# Altium integrated library Capacitor - Ceramic - Sumsung.IntLib: 1421 symbols (part 14 of 22)
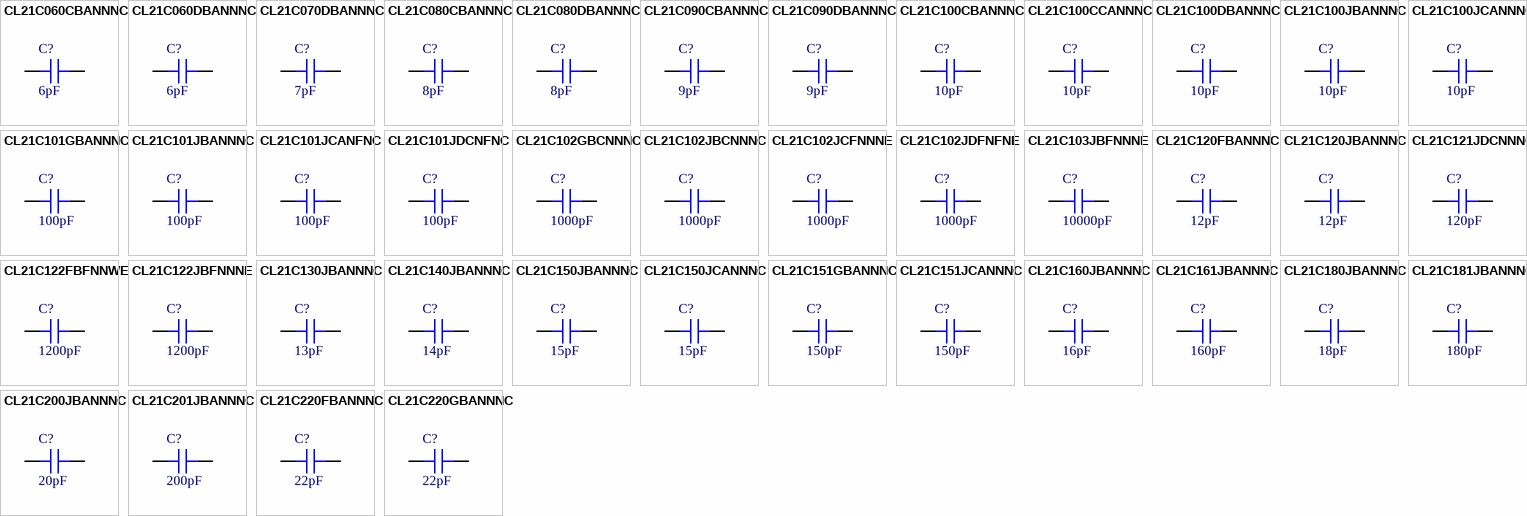
[diagram p48: symbols CL21C060CBANNNC to CL21C220GBANNNC]

## CL21C161JBANNNC
designator C?, comment 160pF
CAP CER 160PF 50V NP0 0805; Part Number: CL21C161JBANNNC; Manufacturer: Samsung Electro-Mechanics America, Inc.; TemperatureRange: -55C ~ 125C; TemperatureCoefficient: C0G, NP0; Tolerance: 5%; Value: 160pF; PartId: 5817; Supplier 1: Digi-Key; Supplier Part Number 1: 1276-2593-2-ND; ComponentLink1Description: Datasheet; ComponentLink1URL: http://www.samsungsem.com/kr/support/product-search/mlcc/CL21C161JBANNNC.jsp; ComponentLink2Description: Digi-Key listing; ComponentLink2URL: http://digikey.com/product-detail/en/CL21C161JBANNNC/1276-2593-2-ND/3888251; Voltage: 50V; Price: 0.0211; Type: -; Device Package: 0805 (2012 Metric)
footprint CAP 0805/2012
pins: 1, 2

## CL21C180JBANNNC
designator C?, comment 18pF
CAP CER 18PF 50V NP0 0805; Part Number: CL21C180JBANNNC; Manufacturer: Samsung Electro-Mechanics America, Inc.; TemperatureRange: -55C ~ 125C; TemperatureCoefficient: C0G, NP0; Tolerance: 5%; Value: 18pF; PartId: 5707; Supplier 1: Digi-Key; Supplier Part Number 1: 1276-1107-2-ND; ComponentLink1Description: Datasheet; ComponentLink1URL: http://www.samsungsem.com/kr/support/product-search/mlcc/CL21C180JBANNNC.jsp; ComponentLink2Description: Digi-Key listing; ComponentLink2URL: http://digikey.com/product-detail/en/CL21C180JBANNNC/1276-1107-2-ND/3886765; Voltage: 50V; Price: 0.0132; Type: -; Device Package: 0805 (2012 Metric)
footprint CAP 0805/2012
pins: 1, 2

## CL21C181JBANNNC
designator C?, comment 180pF
CAP CER 180PF 50V NP0 0805; Part Number: CL21C181JBANNNC; Manufacturer: Samsung Electro-Mechanics America, Inc.; TemperatureRange: -55C ~ 125C; TemperatureCoefficient: C0G, NP0; Tolerance: 5%; Value: 180pF; PartId: 5785; Supplier 1: Digi-Key; Supplier Part Number 1: 1276-1129-2-ND; ComponentLink1Description: Datasheet; ComponentLink1URL: http://www.samsungsem.com/kr/support/product-search/mlcc/CL21C181JBANNNC.jsp; ComponentLink2Description: Digi-Key listing; ComponentLink2URL: http://digikey.com/product-detail/en/CL21C181JBANNNC/1276-1129-2-ND/3886787; Voltage: 50V; Price: 0.0173; Type: -; Device Package: 0805 (2012 Metric)
footprint CAP 0805/2012
pins: 1, 2

## CL21C200JBANNNC
designator C?, comment 20pF
CAP CER 20PF 50V NP0 0805; Part Number: CL21C200JBANNNC; Manufacturer: Samsung Electro-Mechanics America, Inc.; TemperatureRange: -55C ~ 125C; TemperatureCoefficient: C0G, NP0; Tolerance: 5%; Value: 20pF; PartId: 5751; Supplier 1: Digi-Key; Supplier Part Number 1: 1276-1829-2-ND; ComponentLink1Description: Datasheet; ComponentLink1URL: http://www.samsungsem.com/kr/support/product-search/mlcc/CL21C200JBANNNC.jsp; ComponentLink2Description: Digi-Key listing; ComponentLink2URL: http://digikey.com/product-detail/en/CL21C200JBANNNC/1276-1829-2-ND/3887487; Voltage: 50V; Price: 0.0163; Type: -; Device Package: 0805 (2012 Metric)
footprint CAP 0805/2012
pins: 1, 2

## CL21C201JBANNNC
designator C?, comment 200pF
CAP CER 200PF 50V NP0 0805; Part Number: CL21C201JBANNNC; Manufacturer: Samsung Electro-Mechanics America, Inc.; TemperatureRange: -55C ~ 125C; TemperatureCoefficient: C0G, NP0; Tolerance: 5%; Value: 200pF; PartId: 5798; Supplier 1: Digi-Key; Supplier Part Number 1: 1276-2601-2-ND; ComponentLink1Description: Datasheet; ComponentLink1URL: http://www.samsungsem.com/kr/support/product-search/mlcc/CL21C201JBANNNC.jsp; ComponentLink2Description: Digi-Key listing; ComponentLink2URL: http://digikey.com/product-detail/en/CL21C201JBANNNC/1276-2601-2-ND/3888259; Voltage: 50V; Price: 0.0183; Type: -; Device Package: 0805 (2012 Metric)
footprint CAP 0805/2012
pins: 1, 2

## CL21C220FBANNNC
designator C?, comment 22pF
CAP CER 22PF 50V NP0 0805; Part Number: CL21C220FBANNNC; Manufacturer: Samsung Electro-Mechanics America, Inc.; TemperatureRange: -55C ~ 125C; TemperatureCoefficient: C0G, NP0; Tolerance: 1%; Value: 22pF; PartId: 6034; Supplier 1: Digi-Key; Supplier Part Number 1: 1276-2602-2-ND; ComponentLink1Description: Datasheet; ComponentLink1URL: http://media.digikey.com/pdf/Data%20Sheets/Samsung%20PDFs/CL21C220FBANNNC_Spec.pdf; ComponentLink2Description: Digi-Key listing; ComponentLink2URL: http://digikey.com/product-detail/en/CL21C220FBANNNC/1276-2602-2-ND/3888260; Voltage: 50V; Price: 0.0774; Type: -; Device Package: 0805 (2012 Metric)
footprint CAP 0805/2012
pins: 1, 2

## CL21C220GBANNNC
designator C?, comment 22pF
CAP CER 22PF 50V NP0 0805; Part Number: CL21C220GBANNNC; Manufacturer: Samsung Electro-Mechanics America, Inc.; TemperatureRange: -55C ~ 125C; TemperatureCoefficient: C0G, NP0; Tolerance: 2%; Value: 22pF; PartId: 5899; Supplier 1: Digi-Key; Supplier Part Number 1: 1276-2604-2-ND; ComponentLink1Description: Datasheet; ComponentLink1URL: http://www.samsungsem.com/kr/support/product-search/mlcc/CL21C220GBANNNC.jsp; ComponentLink2Description: Digi-Key listing; ComponentLink2URL: http://digikey.com/product-detail/en/CL21C220GBANNNC/1276-2604-2-ND/3888262; Voltage: 50V; Price: 0.0343; Type: -; Device Package: 0805 (2012 Metric)
footprint CAP 0805/2012
pins: 1, 2

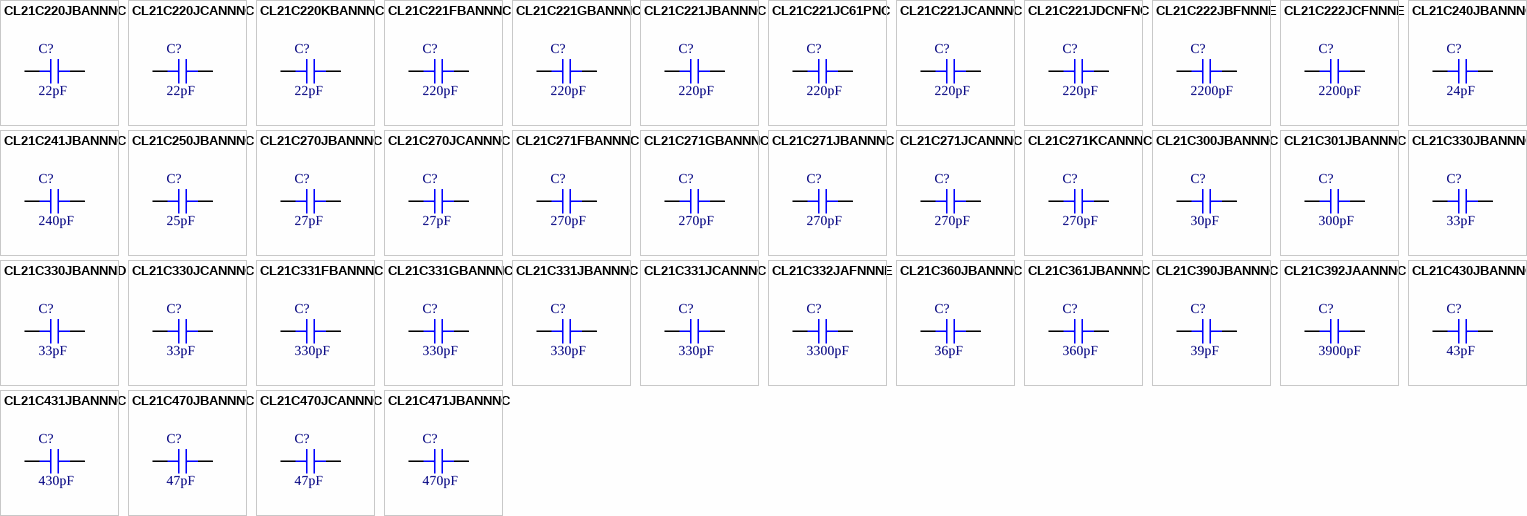
[diagram p22: symbols CL21C220JBANNNC to CL21C471JBANNNC]

## CL21C220JBANNNC
designator C?, comment 22pF
CAP CER 22PF 50V NP0 0805; Part Number: CL21C220JBANNNC; Manufacturer: Samsung Electro-Mechanics America, Inc.; TemperatureRange: -55C ~ 125C; TemperatureCoefficient: C0G, NP0; Tolerance: 5%; Value: 22pF; PartId: 13917; Supplier 1: Digi-Key; Supplier Part Number 1: 1276-1047-2-ND; ComponentLink1Description: Datasheet; ComponentLink1URL: http://www.samsungsem.com/kr/front/downloadcms.do?path=/kr/support/product-search/mlcc/__icsFiles/afieldfile/2014/11/05&fileName=C_CL21C220JBANNNC.pdf; ComponentLink2Description: Digi-Key Listing; ComponentLink2URL: https://www.digikey.com/product-detail/en/samsung-electro-mechanics-america-inc/CL21C220JBANNNC/1276-1047-2-ND/3886705; Voltage: 50V; Price: 0.0092; Device Package: 0805 (2012 Metric)
footprint CAP 0805/2012
pins: 1, 2

## CL21C220JCANNNC
designator C?, comment 22pF
CAP CER 22PF 100V NP0 0805; Part Number: CL21C220JCANNNC; Manufacturer: Samsung Electro-Mechanics America, Inc.; TemperatureRange: -55C ~ 125C; TemperatureCoefficient: C0G, NP0; Tolerance: 5%; Value: 22pF; PartId: 5778; Supplier 1: Digi-Key; Supplier Part Number 1: 1276-2607-2-ND; ComponentLink1Description: Datasheet; ComponentLink1URL: http://www.samsungsem.com/kr/support/product-search/mlcc/CL21C220JCANNNC.jsp; ComponentLink2Description: Digi-Key listing; ComponentLink2URL: http://digikey.com/product-detail/en/CL21C220JCANNNC/1276-2607-2-ND/3888265; Voltage: 100V; Price: 0.0165; Type: -; Device Package: 0805 (2012 Metric)
footprint CAP 0805/2012
pins: 1, 2

## CL21C220KBANNNC
designator C?, comment 22pF
CAP CER 22PF 50V NP0 0805; Part Number: CL21C220KBANNNC; Manufacturer: Samsung Electro-Mechanics America, Inc.; TemperatureRange: -55C ~ 125C; TemperatureCoefficient: C0G, NP0; Tolerance: 10%; Value: 22pF; PartId: 5711; Supplier 1: Digi-Key; Supplier Part Number 1: 1276-2609-2-ND; ComponentLink1Description: Datasheet; ComponentLink1URL: http://www.samsungsem.com/kr/support/product-search/mlcc/CL21C220KBANNNC.jsp; ComponentLink2Description: Digi-Key listing; ComponentLink2URL: http://digikey.com/product-detail/en/CL21C220KBANNNC/1276-2609-2-ND/3888267; Voltage: 50V; Price: 0.0132; Type: -; Device Package: 0805 (2012 Metric)
footprint CAP 0805/2012
pins: 1, 2

## CL21C221FBANNNC
designator C?, comment 220pF
CAP CER 220PF 50V NP0 0805; Part Number: CL21C221FBANNNC; Manufacturer: Samsung Electro-Mechanics America, Inc.; TemperatureRange: -55C ~ 125C; TemperatureCoefficient: C0G, NP0; Tolerance: 1%; Value: 220pF; PartId: 6066; Supplier 1: Digi-Key; Supplier Part Number 1: 1276-2610-2-ND; ComponentLink1Description: Datasheet; ComponentLink1URL: http://media.digikey.com/pdf/Data%20Sheets/Samsung%20PDFs/CL21C221FBANNNC_Spec.pdf; ComponentLink2Description: Digi-Key listing; ComponentLink2URL: http://digikey.com/product-detail/en/CL21C221FBANNNC/1276-2610-2-ND/3888268; Voltage: 50V; Price: 0.098; Type: -; Device Package: 0805 (2012 Metric)
footprint CAP 0805/2012
pins: 1, 2

## CL21C221GBANNNC
designator C?, comment 220pF
CAP CER 220PF 50V NP0 0805; Part Number: CL21C221GBANNNC; Manufacturer: Samsung Electro-Mechanics America, Inc.; TemperatureRange: -55C ~ 125C; TemperatureCoefficient: C0G, NP0; Tolerance: 2%; Value: 220pF; PartId: 6020; Supplier 1: Digi-Key; Supplier Part Number 1: 1276-2611-2-ND; ComponentLink1Description: Datasheet; ComponentLink1URL: http://www.samsungsem.com/kr/support/product-search/mlcc/CL21C221GBANNNC.jsp; ComponentLink2Description: Digi-Key listing; ComponentLink2URL: http://digikey.com/product-detail/en/CL21C221GBANNNC/1276-2611-2-ND/3888269; Voltage: 50V; Price: 0.0721; Type: -; Device Package: 0805 (2012 Metric)
footprint CAP 0805/2012
pins: 1, 2

## CL21C221JBANNNC
designator C?, comment 220pF
CAP CER 220PF 50V NP0 0805; Part Number: CL21C221JBANNNC; Manufacturer: Samsung Electro-Mechanics America, Inc.; TemperatureRange: -55C ~ 125C; TemperatureCoefficient: C0G, NP0; Tolerance: 5%; Value: 220pF; PartId: 5776; Supplier 1: Digi-Key; Supplier Part Number 1: 1276-1164-2-ND; ComponentLink1Description: Datasheet; ComponentLink1URL: http://www.samsungsem.com/kr/support/product-search/mlcc/CL21C221JBANNNC.jsp; ComponentLink2Description: Digi-Key listing; ComponentLink2URL: http://digikey.com/product-detail/en/CL21C221JBANNNC/1276-1164-2-ND/3886822; Voltage: 50V; Price: 0.0165; Type: -; Device Package: 0805 (2012 Metric)
footprint CAP 0805/2012
pins: 1, 2

## CL21C221JC61PNC
designator C?, comment 220pF
CAP CER 220PF 100V NP0 0805; Part Number: CL21C221JC61PNC; Manufacturer: Samsung Electro-Mechanics America, Inc.; TemperatureRange: -55C ~ 125C; TemperatureCoefficient: C0G, NP0; Tolerance: 5%; Value: 220pF; PartId: 14348; Supplier 1: Digi-Key; Supplier Part Number 1: 1276-2614-2-ND; ComponentLink1Description: Datasheet; ComponentLink1URL: //media.digikey.com/pdf/Data%20Sheets/Samsung%20PDFs/CL21C221JC61PNC_Spec.pdf; ComponentLink2Description: Digi-Key Listing; ComponentLink2URL: https://www.digikey.com/product-detail/en/samsung-electro-mechanics-america-inc/CL21C221JC61PNC/1276-2614-2-ND/3888272; Voltage: 100V; Price: 0.0309; Device Package: 0805 (2012 Metric)
footprint CAP 0805/2012
pins: 1, 2

## CL21C221JCANNNC
designator C?, comment 220pF
CAP CER 220PF 100V NP0 0805; Part Number: CL21C221JCANNNC; Manufacturer: Samsung Electro-Mechanics America, Inc.; TemperatureRange: -55C ~ 125C; TemperatureCoefficient: C0G, NP0; Tolerance: 5%; Value: 220pF; PartId: 5895; Supplier 1: Digi-Key; Supplier Part Number 1: 1276-2615-2-ND; ComponentLink1Description: Datasheet; ComponentLink1URL: http://www.samsungsem.com/kr/support/product-search/mlcc/CL21C221JCANNNC.jsp; ComponentLink2Description: Digi-Key listing; ComponentLink2URL: http://digikey.com/product-detail/en/CL21C221JCANNNC/1276-2615-2-ND/3888273; Voltage: 100V; Price: 0.034; Type: -; Device Package: 0805 (2012 Metric)
footprint CAP 0805/2012
pins: 1, 2

## CL21C221JDCNFNC
designator C?, comment 220pF
CAP CER 220PF 200V NP0 0805; Part Number: CL21C221JDCNFNC; Manufacturer: Samsung Electro-Mechanics America, Inc.; TemperatureRange: -55C ~ 125C; TemperatureCoefficient: C0G, NP0; Tolerance: 5%; Value: 220pF; PartId: 5915; Supplier 1: Digi-Key; Supplier Part Number 1: 1276-2616-2-ND; ComponentLink1Description: Datasheet; ComponentLink1URL: http://www.samsungsem.com/kr/support/product-search/mlcc/CL21C221JDCNFNC.jsp; ComponentLink2Description: Digi-Key listing; ComponentLink2URL: http://digikey.com/product-detail/en/CL21C221JDCNFNC/1276-2616-2-ND/3888274; Voltage: 200V; Price: 0.0384; Type: -; Device Package: 0805 (2012 Metric)
footprint CAP 0805/2012
pins: 1, 2

## CL21C222JBFNNNE
designator C?, comment 2200pF
CAP CER 2200PF 50V NP0 0805; Part Number: CL21C222JBFNNNE; Manufacturer: Samsung Electro-Mechanics America, Inc.; TemperatureRange: -55C ~ 125C; TemperatureCoefficient: C0G, NP0; Tolerance: 5%; Value: 2200pF; PartId: 5922; Supplier 1: Digi-Key; Supplier Part Number 1: 1276-2993-2-ND; ComponentLink1Description: Datasheet; ComponentLink1URL: http://www.samsungsem.com/kr/support/product-search/mlcc/CL21C222JBFNNNE.jsp; ComponentLink2Description: Digi-Key listing; ComponentLink2URL: http://digikey.com/product-detail/en/CL21C222JBFNNNE/1276-2993-2-ND/3888651; Voltage: 50V; Price: 0.0405; Type: -; Device Package: 0805 (2012 Metric)
footprint CAP 0805/2012
pins: 1, 2

## CL21C222JCFNNNE
designator C?, comment 2200pF
CAP CER 2200PF 100V NP0 0805; Part Number: CL21C222JCFNNNE; Manufacturer: Samsung Electro-Mechanics America, Inc.; TemperatureRange: -55C ~ 125C; TemperatureCoefficient: C0G, NP0; Tolerance: 5%; Value: 2200pF; PartId: 5953; Supplier 1: Digi-Key; Supplier Part Number 1: 1276-2995-2-ND; ComponentLink1Description: Datasheet; ComponentLink1URL: http://www.samsungsem.com/kr/support/product-search/mlcc/CL21C222JCFNNNE.jsp; ComponentLink2Description: Digi-Key listing; ComponentLink2URL: http://digikey.com/product-detail/en/CL21C222JCFNNNE/1276-2995-2-ND/3888653; Voltage: 100V; Price: 0.0505; Type: -; Device Package: 0805 (2012 Metric)
footprint CAP 0805/2012
pins: 1, 2

## CL21C240JBANNNC
designator C?, comment 24pF
CAP CER 24PF 50V NP0 0805; Part Number: CL21C240JBANNNC; Manufacturer: Samsung Electro-Mechanics America, Inc.; TemperatureRange: -55C ~ 125C; TemperatureCoefficient: C0G, NP0; Tolerance: 5%; Value: 24pF; PartId: 5669; Supplier 1: Digi-Key; Supplier Part Number 1: 1276-2619-2-ND; ComponentLink1Description: Datasheet; ComponentLink1URL: http://www.samsungsem.com/kr/support/product-search/mlcc/CL21C240JBANNNC.jsp; ComponentLink2Description: Digi-Key listing; ComponentLink2URL: http://digikey.com/product-detail/en/CL21C240JBANNNC/1276-2619-2-ND/3888277; Voltage: 50V; Price: 0.0054; Type: -; Device Package: 0805 (2012 Metric)
footprint CAP 0805/2012
pins: 1, 2

## CL21C241JBANNNC
designator C?, comment 240pF
CAP CER 240PF 50V NP0 0805; Part Number: CL21C241JBANNNC; Manufacturer: Samsung Electro-Mechanics America, Inc.; TemperatureRange: -55C ~ 125C; TemperatureCoefficient: C0G, NP0; Tolerance: 5%; Value: 240pF; PartId: 5842; Supplier 1: Digi-Key; Supplier Part Number 1: 1276-2620-2-ND; ComponentLink1Description: Datasheet; ComponentLink1URL: http://www.samsungsem.com/kr/support/product-search/mlcc/CL21C241JBANNNC.jsp; ComponentLink2Description: Digi-Key listing; ComponentLink2URL: http://digikey.com/product-detail/en/CL21C241JBANNNC/1276-2620-2-ND/3888278; Voltage: 50V; Price: 0.0239; Type: -; Device Package: 0805 (2012 Metric)
footprint CAP 0805/2012
pins: 1, 2

## CL21C250JBANNNC
designator C?, comment 25pF
CAP CER 25PF 50V NP0 0805; Part Number: CL21C250JBANNNC; Manufacturer: Samsung Electro-Mechanics America, Inc.; TemperatureRange: -55C ~ 125C; TemperatureCoefficient: C0G, NP0; Tolerance: 5%; Value: 25pF; PartId: 5673; Supplier 1: Digi-Key; Supplier Part Number 1: 1276-2621-2-ND; ComponentLink1Description: Datasheet; ComponentLink1URL: http://www.samsungsem.com/kr/support/product-search/mlcc/CL21C250JBANNNC.jsp; ComponentLink2Description: Digi-Key listing; ComponentLink2URL: http://digikey.com/product-detail/en/CL21C250JBANNNC/1276-2621-2-ND/3888279; Voltage: 50V; Price: 0.0054; Type: -; Device Package: 0805 (2012 Metric)
footprint CAP 0805/2012
pins: 1, 2

## CL21C270JBANNNC
designator C?, comment 27pF
CAP CER 27PF 50V NP0 0805; Part Number: CL21C270JBANNNC; Manufacturer: Samsung Electro-Mechanics America, Inc.; TemperatureRange: -55C ~ 125C; TemperatureCoefficient: C0G, NP0; Tolerance: 5%; Value: 27pF; PartId: 5748; Supplier 1: Digi-Key; Supplier Part Number 1: 1276-1285-2-ND; ComponentLink1Description: Datasheet; ComponentLink1URL: http://www.samsungsem.com/kr/support/product-search/mlcc/CL21C270JBANNNC.jsp; ComponentLink2Description: Digi-Key listing; ComponentLink2URL: http://digikey.com/product-detail/en/CL21C270JBANNNC/1276-1285-2-ND/3886943; Voltage: 50V; Price: 0.0163; Type: -; Device Package: 0805 (2012 Metric)
footprint CAP 0805/2012
pins: 1, 2

## CL21C270JCANNNC
designator C?, comment 27pF
CAP CER 27PF 100V NP0 0805; Part Number: CL21C270JCANNNC; Manufacturer: Samsung Electro-Mechanics America, Inc.; TemperatureRange: -55C ~ 125C; TemperatureCoefficient: C0G, NP0; Tolerance: 5%; Value: 27pF; PartId: 5819; Supplier 1: Digi-Key; Supplier Part Number 1: 1276-2622-2-ND; ComponentLink1Description: Datasheet; ComponentLink1URL: http://www.samsungsem.com/kr/support/product-search/mlcc/CL21C270JCANNNC.jsp; ComponentLink2Description: Digi-Key listing; ComponentLink2URL: http://digikey.com/product-detail/en/CL21C270JCANNNC/1276-2622-2-ND/3888280; Voltage: 100V; Price: 0.0212; Type: -; Device Package: 0805 (2012 Metric)
footprint CAP 0805/2012
pins: 1, 2

## CL21C271FBANNNC
designator C?, comment 270pF
CAP CER 270PF 50V NP0 0805; Part Number: CL21C271FBANNNC; Manufacturer: Samsung Electro-Mechanics America, Inc.; TemperatureRange: -55C ~ 125C; TemperatureCoefficient: C0G, NP0; Tolerance: 1%; Value: 270pF; PartId: 6012; Supplier 1: Digi-Key; Supplier Part Number 1: 1276-2623-2-ND; ComponentLink1Description: Datasheet; ComponentLink1URL: http://media.digikey.com/pdf/Data%20Sheets/Samsung%20PDFs/CL21C271FBANNNC_Spec.pdf; ComponentLink2Description: Digi-Key listing; ComponentLink2URL: http://digikey.com/product-detail/en/CL21C271FBANNNC/1276-2623-2-ND/3888281; Voltage: 50V; Price: 0.0705; Type: -; Device Package: 0805 (2012 Metric)
footprint CAP 0805/2012
pins: 1, 2

## CL21C271GBANNNC
designator C?, comment 270pF
CAP CER 270PF 50V NP0 0805; Part Number: CL21C271GBANNNC; Manufacturer: Samsung Electro-Mechanics America, Inc.; TemperatureRange: -55C ~ 125C; TemperatureCoefficient: C0G, NP0; Tolerance: 2%; Value: 270pF; PartId: 5943; Supplier 1: Digi-Key; Supplier Part Number 1: 1276-2624-2-ND; ComponentLink1Description: Datasheet; ComponentLink1URL: http://www.samsungsem.com/kr/support/product-search/mlcc/CL21C271GBANNNC.jsp; ComponentLink2Description: Digi-Key listing; ComponentLink2URL: http://digikey.com/product-detail/en/CL21C271GBANNNC/1276-2624-2-ND/3888282; Voltage: 50V; Price: 0.0457; Type: -; Device Package: 0805 (2012 Metric)
footprint CAP 0805/2012
pins: 1, 2

## CL21C271JBANNNC
designator C?, comment 270pF
CAP CER 270PF 50V NP0 0805; Part Number: CL21C271JBANNNC; Manufacturer: Samsung Electro-Mechanics America, Inc.; TemperatureRange: -55C ~ 125C; TemperatureCoefficient: C0G, NP0; Tolerance: 5%; Value: 270pF; PartId: 14248; Supplier 1: Digi-Key; Supplier Part Number 1: 1276-1262-2-ND; ComponentLink1Description: Datasheet; ComponentLink1URL: http://www.samsungsem.com/kr/support/product-search/mlcc/CL21C271JBANNNC.jsp; ComponentLink2Description: Digi-Key Listing; ComponentLink2URL: https://www.digikey.com/product-detail/en/samsung-electro-mechanics-america-inc/CL21C271JBANNNC/1276-1262-2-ND/3886920; Voltage: 50V; Price: 0.0156; Device Package: 0805 (2012 Metric)
footprint CAP 0805/2012
pins: 1, 2

## CL21C271JCANNNC
designator C?, comment 270pF
CAP CER 270PF 100V NP0 0805; Part Number: CL21C271JCANNNC; Manufacturer: Samsung Electro-Mechanics America, Inc.; TemperatureRange: -55C ~ 125C; TemperatureCoefficient: C0G, NP0; Tolerance: 5%; Value: 270pF; PartId: 5872; Supplier 1: Digi-Key; Supplier Part Number 1: 1276-2627-2-ND; ComponentLink1Description: Datasheet; ComponentLink1URL: http://www.samsungsem.com/kr/support/product-search/mlcc/CL21C271JCANNNC.jsp; ComponentLink2Description: Digi-Key listing; ComponentLink2URL: http://digikey.com/product-detail/en/CL21C271JCANNNC/1276-2627-2-ND/3888285; Voltage: 100V; Price: 0.0297; Type: -; Device Package: 0805 (2012 Metric)
footprint CAP 0805/2012
pins: 1, 2

## CL21C271KCANNNC
designator C?, comment 270pF
CAP CER 270PF 100V NP0 0805; Part Number: CL21C271KCANNNC; Manufacturer: Samsung Electro-Mechanics America, Inc.; TemperatureRange: -55C ~ 125C; TemperatureCoefficient: C0G, NP0; Tolerance: 10%; Value: 270pF; PartId: 5926; Supplier 1: Digi-Key; Supplier Part Number 1: 1276-2628-2-ND; ComponentLink1Description: Datasheet; ComponentLink1URL: http://www.samsungsem.com/kr/support/product-search/mlcc/CL21C271KCANNNC.jsp; ComponentLink2Description: Digi-Key listing; ComponentLink2URL: http://digikey.com/product-detail/en/CL21C271KCANNNC/1276-2628-2-ND/3888286; Voltage: 100V; Price: 0.0413; Type: -; Device Package: 0805 (2012 Metric)
footprint CAP 0805/2012
pins: 1, 2

## CL21C300JBANNNC
designator C?, comment 30pF
CAP CER 30PF 50V NP0 0805; Part Number: CL21C300JBANNNC; Manufacturer: Samsung Electro-Mechanics America, Inc.; TemperatureRange: -55C ~ 125C; TemperatureCoefficient: C0G, NP0; Tolerance: 5%; Value: 30pF; PartId: 5752; Supplier 1: Digi-Key; Supplier Part Number 1: 1276-1130-2-ND; ComponentLink1Description: Datasheet; ComponentLink1URL: http://www.samsungsem.com/kr/support/product-search/mlcc/CL21C300JBANNNC.jsp; ComponentLink2Description: Digi-Key listing; ComponentLink2URL: http://digikey.com/product-detail/en/CL21C300JBANNNC/1276-1130-2-ND/3886788; Voltage: 50V; Price: 0.0163; Type: -; Device Package: 0805 (2012 Metric)
footprint CAP 0805/2012
pins: 1, 2

## CL21C301JBANNNC
designator C?, comment 300pF
CAP CER 300PF 50V NP0 0805; Part Number: CL21C301JBANNNC; Manufacturer: Samsung Electro-Mechanics America, Inc.; TemperatureRange: -55C ~ 125C; TemperatureCoefficient: C0G, NP0; Tolerance: 5%; Value: 300pF; PartId: 5866; Supplier 1: Digi-Key; Supplier Part Number 1: 1276-2636-2-ND; ComponentLink1Description: Datasheet; ComponentLink1URL: http://www.samsungsem.com/kr/support/product-search/mlcc/CL21C301JBANNNC.jsp; ComponentLink2Description: Digi-Key listing; ComponentLink2URL: http://digikey.com/product-detail/en/CL21C301JBANNNC/1276-2636-2-ND/3888294; Voltage: 50V; Price: 0.0285; Type: -; Device Package: 0805 (2012 Metric)
footprint CAP 0805/2012
pins: 1, 2

## CL21C330JBANNNC
designator C?, comment 33pF
CAP CER 33PF 50V NP0 0805; Part Number: CL21C330JBANNNC; Manufacturer: Samsung Electro-Mechanics America, Inc.; TemperatureRange: -55C ~ 125C; TemperatureCoefficient: C0G, NP0; Tolerance: 5%; Value: 33pF; PartId: 13900; Supplier 1: Digi-Key; Supplier Part Number 1: 1276-1105-2-ND; ComponentLink1Description: Datasheet; ComponentLink1URL: http://www.samsungsem.com/kr/support/product-search/mlcc/CL21C330JBANNNC.jsp; ComponentLink2Description: Digi-Key Listing; ComponentLink2URL: https://www.digikey.com/product-detail/en/samsung-electro-mechanics-america-inc/CL21C330JBANNNC/1276-1105-2-ND/3886763; Voltage: 50V; Price: 0.0092; Device Package: 0805 (2012 Metric)
footprint CAP 0805/2012
pins: 1, 2

## CL21C330JBANNND
designator C?, comment 33pF
CAP CER 33PF 50V NP0 0805; Part Number: CL21C330JBANNND; Manufacturer: Samsung Electro-Mechanics America, Inc.; TemperatureRange: -55C ~ 125C; TemperatureCoefficient: C0G, NP0; Tolerance: 5%; Value: 33pF; PartId: 5666; Supplier 1: Digi-Key; Supplier Part Number 1: CL21C330JBANNND-ND; ComponentLink1Description: Datasheet; ComponentLink1URL: http://www.samsungsem.com/kr/support/product-search/mlcc/CL21C330JBANNND.jsp; ComponentLink2Description: Digi-Key listing; ComponentLink2URL: http://digikey.com/product-detail/en/CL21C330JBANNND/CL21C330JBANNND-ND/3894595; Voltage: 50V; Price: 0.005; Type: -; Device Package: 0805 (2012 Metric)
footprint CAP 0805/2012
pins: 1, 2

## CL21C330JCANNNC
designator C?, comment 33pF
CAP CER 33PF 100V NP0 0805; Part Number: CL21C330JCANNNC; Manufacturer: Samsung Electro-Mechanics America, Inc.; TemperatureRange: -55C ~ 125C; TemperatureCoefficient: C0G, NP0; Tolerance: 5%; Value: 33pF; PartId: 5825; Supplier 1: Digi-Key; Supplier Part Number 1: 1276-2640-2-ND; ComponentLink1Description: Datasheet; ComponentLink1URL: http://www.samsungsem.com/kr/support/product-search/mlcc/CL21C330JCANNNC.jsp; ComponentLink2Description: Digi-Key listing; ComponentLink2URL: http://digikey.com/product-detail/en/CL21C330JCANNNC/1276-2640-2-ND/3888298; Voltage: 100V; Price: 0.0214; Type: -; Device Package: 0805 (2012 Metric)
footprint CAP 0805/2012
pins: 1, 2

## CL21C331FBANNNC
designator C?, comment 330pF
CAP CER 330PF 50V NP0 0805; Part Number: CL21C331FBANNNC; Manufacturer: Samsung Electro-Mechanics America, Inc.; TemperatureRange: -55C ~ 125C; TemperatureCoefficient: C0G, NP0; Tolerance: 1%; Value: 330pF; PartId: 6011; Supplier 1: Digi-Key; Supplier Part Number 1: 1276-2642-2-ND; ComponentLink1Description: Datasheet; ComponentLink1URL: http://media.digikey.com/pdf/Data%20Sheets/Samsung%20PDFs/CL21C331FBANNNC_Spec.pdf; ComponentLink2Description: Digi-Key listing; ComponentLink2URL: http://digikey.com/product-detail/en/CL21C331FBANNNC/1276-2642-2-ND/3888300; Voltage: 50V; Price: 0.0705; Type: -; Device Package: 0805 (2012 Metric)
footprint CAP 0805/2012
pins: 1, 2

## CL21C331GBANNNC
designator C?, comment 330pF
CAP CER 330PF 50V NP0 0805; Part Number: CL21C331GBANNNC; Manufacturer: Samsung Electro-Mechanics America, Inc.; TemperatureRange: -55C ~ 125C; TemperatureCoefficient: C0G, NP0; Tolerance: 2%; Value: 330pF; PartId: 5944; Supplier 1: Digi-Key; Supplier Part Number 1: 1276-2643-2-ND; ComponentLink1Description: Datasheet; ComponentLink1URL: http://www.samsungsem.com/kr/support/product-search/mlcc/CL21C331GBANNNC.jsp; ComponentLink2Description: Digi-Key listing; ComponentLink2URL: http://digikey.com/product-detail/en/CL21C331GBANNNC/1276-2643-2-ND/3888301; Voltage: 50V; Price: 0.0457; Type: -; Device Package: 0805 (2012 Metric)
footprint CAP 0805/2012
pins: 1, 2

## CL21C331JBANNNC
designator C?, comment 330pF
CAP CER 330PF 50V NP0 0805; Part Number: CL21C331JBANNNC; Manufacturer: Samsung Electro-Mechanics America, Inc.; TemperatureRange: -55C ~ 125C; TemperatureCoefficient: C0G, NP0; Tolerance: 5%; Value: 330pF; PartId: 14024; Supplier 1: Digi-Key; Supplier Part Number 1: 1276-1189-2-ND; ComponentLink1Description: Datasheet; ComponentLink1URL: http://www.samsungsem.com/kr/support/product-search/mlcc/CL21C331JBANNNC.jsp; ComponentLink2Description: Digi-Key Listing; ComponentLink2URL: https://www.digikey.com/product-detail/en/samsung-electro-mechanics-america-inc/CL21C331JBANNNC/1276-1189-2-ND/3886847; Voltage: 50V; Price: 0.0115; Device Package: 0805 (2012 Metric)
footprint CAP 0805/2012
pins: 1, 2

## CL21C331JCANNNC
designator C?, comment 330pF
CAP CER 330PF 100V NP0 0805; Part Number: CL21C331JCANNNC; Manufacturer: Samsung Electro-Mechanics America, Inc.; TemperatureRange: -55C ~ 125C; TemperatureCoefficient: C0G, NP0; Tolerance: 5%; Value: 330pF; PartId: 5887; Supplier 1: Digi-Key; Supplier Part Number 1: 1276-2646-2-ND; ComponentLink1Description: Datasheet; ComponentLink1URL: http://www.samsungsem.com/kr/support/product-search/mlcc/CL21C331JCANNNC.jsp; ComponentLink2Description: Digi-Key listing; ComponentLink2URL: http://digikey.com/product-detail/en/CL21C331JCANNNC/1276-2646-2-ND/3888304; Voltage: 100V; Price: 0.0322; Type: -; Device Package: 0805 (2012 Metric)
footprint CAP 0805/2012
pins: 1, 2

## CL21C332JAFNNNE
designator C?, comment 3300pF
CAP CER 3300PF 25V NP0 0805; Part Number: CL21C332JAFNNNE; Manufacturer: Samsung Electro-Mechanics America, Inc.; TemperatureRange: -55C ~ 125C; TemperatureCoefficient: C0G, NP0; Tolerance: 5%; Value: 3300pF; PartId: 5940; Supplier 1: Digi-Key; Supplier Part Number 1: 1276-2997-2-ND; ComponentLink1Description: Datasheet; ComponentLink1URL: http://www.samsungsem.com/kr/support/product-search/mlcc/CL21C332JAFNNNE.jsp; ComponentLink2Description: Digi-Key listing; ComponentLink2URL: http://digikey.com/product-detail/en/CL21C332JAFNNNE/1276-2997-2-ND/3888655; Voltage: 25V; Price: 0.0442; Type: -; Device Package: 0805 (2012 Metric)
footprint CAP 0805/2012
pins: 1, 2

## CL21C360JBANNNC
designator C?, comment 36pF
CAP CER 36PF 50V NP0 0805; Part Number: CL21C360JBANNNC; Manufacturer: Samsung Electro-Mechanics America, Inc.; TemperatureRange: -55C ~ 125C; TemperatureCoefficient: C0G, NP0; Tolerance: 5%; Value: 36pF; PartId: 14252; Supplier 1: Digi-Key; Supplier Part Number 1: 1276-2649-2-ND; ComponentLink1Description: Datasheet; ComponentLink1URL: http://www.samsungsem.com/kr/support/product-search/mlcc/CL21C360JBANNNC.jsp; ComponentLink2Description: Digi-Key Listing; ComponentLink2URL: https://www.digikey.com/product-detail/en/samsung-electro-mechanics-america-inc/CL21C360JBANNNC/1276-2649-2-ND/3888307; Voltage: 50V; Price: 0.0113; Device Package: 0805 (2012 Metric)
footprint CAP 0805/2012
pins: 1, 2

## CL21C361JBANNNC
designator C?, comment 360pF
CAP CER 360PF 50V NP0 0805; Part Number: CL21C361JBANNNC; Manufacturer: Samsung Electro-Mechanics America, Inc.; TemperatureRange: -55C ~ 125C; TemperatureCoefficient: C0G, NP0; Tolerance: 5%; Value: 360pF; PartId: 5888; Supplier 1: Digi-Key; Supplier Part Number 1: 1276-2650-2-ND; ComponentLink1Description: Datasheet; ComponentLink1URL: http://www.samsungsem.com/kr/support/product-search/mlcc/CL21C361JBANNNC.jsp; ComponentLink2Description: Digi-Key listing; ComponentLink2URL: http://digikey.com/product-detail/en/CL21C361JBANNNC/1276-2650-2-ND/3888308; Voltage: 50V; Price: 0.0328; Type: -; Device Package: 0805 (2012 Metric)
footprint CAP 0805/2012
pins: 1, 2

## CL21C390JBANNNC
designator C?, comment 39pF
CAP CER 39PF 50V NP0 0805; Part Number: CL21C390JBANNNC; Manufacturer: Samsung Electro-Mechanics America, Inc.; TemperatureRange: -55C ~ 125C; TemperatureCoefficient: C0G, NP0; Tolerance: 5%; Value: 39pF; PartId: 5750; Supplier 1: Digi-Key; Supplier Part Number 1: 1276-1769-2-ND; ComponentLink1Description: Datasheet; ComponentLink1URL: http://www.samsungsem.com/kr/support/product-search/mlcc/CL21C390JBANNNC.jsp; ComponentLink2Description: Digi-Key listing; ComponentLink2URL: http://digikey.com/product-detail/en/CL21C390JBANNNC/1276-1769-2-ND/3887427; Voltage: 50V; Price: 0.0163; Type: -; Device Package: 0805 (2012 Metric)
footprint CAP 0805/2012
pins: 1, 2

## CL21C392JAANNNC
designator C?, comment 3900pF
CAP CER 3900PF 25V NP0 0805; Part Number: CL21C392JAANNNC; Manufacturer: Samsung Electro-Mechanics America, Inc.; TemperatureRange: -55C ~ 125C; TemperatureCoefficient: C0G, NP0; Tolerance: 5%; Value: 3900pF; PartId: 5969; Supplier 1: Digi-Key; Supplier Part Number 1: 1276-2654-2-ND; ComponentLink1Description: Datasheet; ComponentLink1URL: http://www.samsungsem.com/kr/support/product-search/mlcc/CL21C392JAANNNC.jsp; ComponentLink2Description: Digi-Key listing; ComponentLink2URL: http://digikey.com/product-detail/en/CL21C392JAANNNC/1276-2654-2-ND/3888312; Voltage: 25V; Price: 0.0578; Type: -; Device Package: 0805 (2012 Metric)
footprint CAP 0805/2012
pins: 1, 2

## CL21C430JBANNNC
designator C?, comment 43pF
CAP CER 43PF 50V NP0 0805; Part Number: CL21C430JBANNNC; Manufacturer: Samsung Electro-Mechanics America, Inc.; TemperatureRange: -55C ~ 125C; TemperatureCoefficient: C0G, NP0; Tolerance: 5%; Value: 43pF; PartId: 5670; Supplier 1: Digi-Key; Supplier Part Number 1: 1276-2657-2-ND; ComponentLink1Description: Datasheet; ComponentLink1URL: http://www.samsungsem.com/kr/support/product-search/mlcc/CL21C430JBANNNC.jsp; ComponentLink2Description: Digi-Key listing; ComponentLink2URL: http://digikey.com/product-detail/en/CL21C430JBANNNC/1276-2657-2-ND/3888315; Voltage: 50V; Price: 0.0054; Type: -; Device Package: 0805 (2012 Metric)
footprint CAP 0805/2012
pins: 1, 2

## CL21C431JBANNNC
designator C?, comment 430pF
CAP CER 430PF 50V NP0 0805; Part Number: CL21C431JBANNNC; Manufacturer: Samsung Electro-Mechanics America, Inc.; TemperatureRange: -55C ~ 125C; TemperatureCoefficient: C0G, NP0; Tolerance: 5%; Value: 430pF; PartId: 5902; Supplier 1: Digi-Key; Supplier Part Number 1: 1276-2659-2-ND; ComponentLink1Description: Datasheet; ComponentLink1URL: http://www.samsungsem.com/kr/support/product-search/mlcc/CL21C431JBANNNC.jsp; ComponentLink2Description: Digi-Key listing; ComponentLink2URL: http://digikey.com/product-detail/en/CL21C431JBANNNC/1276-2659-2-ND/3888317; Voltage: 50V; Price: 0.0351; Type: -; Device Package: 0805 (2012 Metric)
footprint CAP 0805/2012
pins: 1, 2

## CL21C470JBANNNC
designator C?, comment 47pF
CAP CER 47PF 50V NP0 0805; Part Number: CL21C470JBANNNC; Manufacturer: Samsung Electro-Mechanics America, Inc.; TemperatureRange: -55C ~ 125C; TemperatureCoefficient: C0G, NP0; Tolerance: 5%; Value: 47pF; PartId: 5710; Supplier 1: Digi-Key; Supplier Part Number 1: 1276-1156-2-ND; ComponentLink1Description: Datasheet; ComponentLink1URL: http://www.samsungsem.com/kr/support/product-search/mlcc/CL21C470JBANNNC.jsp; ComponentLink2Description: Digi-Key listing; ComponentLink2URL: http://digikey.com/product-detail/en/CL21C470JBANNNC/1276-1156-2-ND/3886814; Voltage: 50V; Price: 0.0132; Type: -; Device Package: 0805 (2012 Metric)
footprint CAP 0805/2012
pins: 1, 2

## CL21C470JCANNNC
designator C?, comment 47pF
CAP CER 47PF 100V NP0 0805; Part Number: CL21C470JCANNNC; Manufacturer: Samsung Electro-Mechanics America, Inc.; TemperatureRange: -55C ~ 125C; TemperatureCoefficient: C0G, NP0; Tolerance: 5%; Value: 47pF; PartId: 5821; Supplier 1: Digi-Key; Supplier Part Number 1: 1276-2662-2-ND; ComponentLink1Description: Datasheet; ComponentLink1URL: http://www.samsungsem.com/kr/support/product-search/mlcc/CL21C470JCANNNC.jsp; ComponentLink2Description: Digi-Key listing; ComponentLink2URL: http://digikey.com/product-detail/en/CL21C470JCANNNC/1276-2662-2-ND/3888320; Voltage: 100V; Price: 0.0214; Type: -; Device Package: 0805 (2012 Metric)
footprint CAP 0805/2012
pins: 1, 2

## CL21C471JBANNNC
designator C?, comment 470pF
CAP CER 470PF 50V NP0 0805; Part Number: CL21C471JBANNNC; Manufacturer: Samsung Electro-Mechanics America, Inc.; TemperatureRange: -55C ~ 125C; TemperatureCoefficient: C0G, NP0; Tolerance: 5%; Value: 470pF; PartId: 13839; Supplier 1: Digi-Key; Supplier Part Number 1: 1276-1121-2-ND; ComponentLink1Description: Datasheet; ComponentLink1URL: http://www.samsungsem.com/kr/support/product-search/mlcc/CL21C471JBANNNC.jsp; ComponentLink2Description: Digi-Key Listing; ComponentLink2URL: https://www.digikey.com/product-detail/en/samsung-electro-mechanics-america-inc/CL21C471JBANNNC/1276-1121-2-ND/3886779; Voltage: 50V; Price: 0.0154; Device Package: 0805 (2012 Metric)
footprint CAP 0805/2012
pins: 1, 2

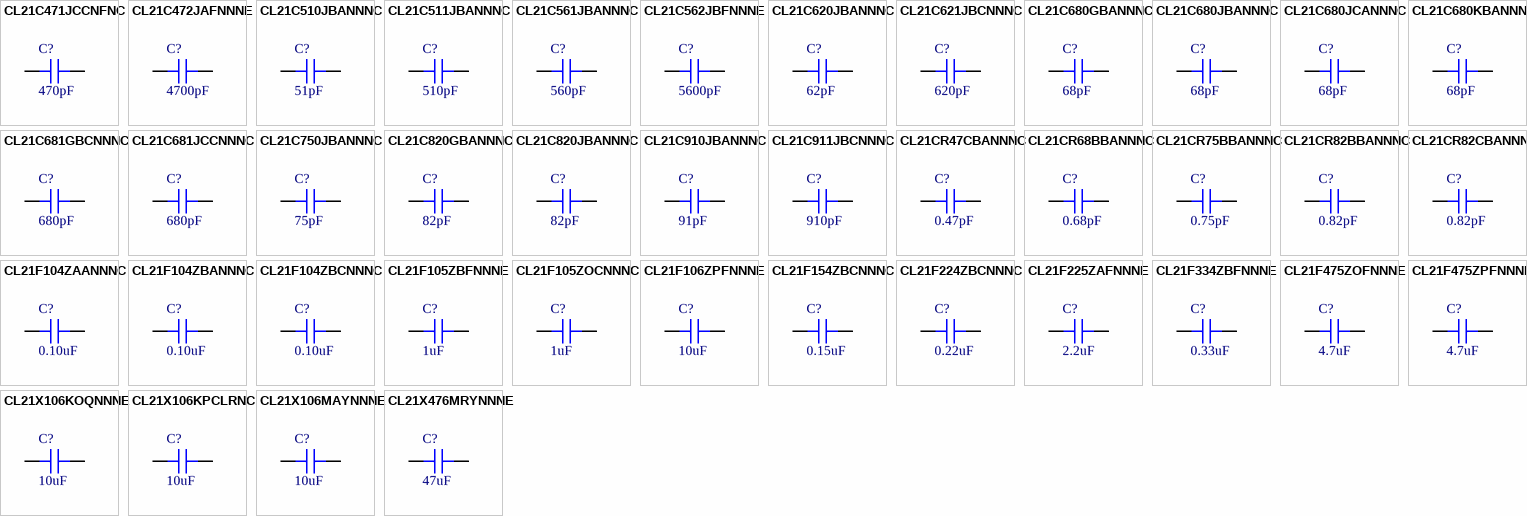
[diagram p23: symbols CL21C471JCCNFNC to CL21X476MRYNNNE]

## CL21C471JCCNFNC
designator C?, comment 470pF
CAP CER 470PF 100V NP0 0805; Part Number: CL21C471JCCNFNC; Manufacturer: Samsung Electro-Mechanics America, Inc.; TemperatureRange: -55C ~ 125C; TemperatureCoefficient: C0G, NP0; Tolerance: 5%; Value: 470pF; PartId: 5893; Supplier 1: Digi-Key; Supplier Part Number 1: 1276-2666-2-ND; ComponentLink1Description: Datasheet; ComponentLink1URL: http://www.samsungsem.com/kr/support/product-search/mlcc/CL21C471JCCNFNC.jsp; ComponentLink2Description: Digi-Key listing; ComponentLink2URL: http://digikey.com/product-detail/en/CL21C471JCCNFNC/1276-2666-2-ND/3888324; Voltage: 100V; Price: 0.0339; Type: -; Device Package: 0805 (2012 Metric)
footprint CAP 0805/2012
pins: 1, 2

## CL21C472JAFNNNE
designator C?, comment 4700pF
CAP CER 4700PF 25V NP0 0805; Part Number: CL21C472JAFNNNE; Manufacturer: Samsung Electro-Mechanics America, Inc.; TemperatureRange: -55C ~ 125C; TemperatureCoefficient: C0G, NP0; Tolerance: 5%; Value: 4700pF; PartId: 6016; Supplier 1: Digi-Key; Supplier Part Number 1: 1276-3001-2-ND; ComponentLink1Description: Datasheet; ComponentLink1URL: http://www.samsungsem.com/kr/support/product-search/mlcc/CL21C472JAFNNNE.jsp; ComponentLink2Description: Digi-Key listing; ComponentLink2URL: http://digikey.com/product-detail/en/CL21C472JAFNNNE/1276-3001-2-ND/3888659; Voltage: 25V; Price: 0.0712; Type: -; Device Package: 0805 (2012 Metric)
footprint CAP 0805/2012
pins: 1, 2

## CL21C510JBANNNC
designator C?, comment 51pF
CAP CER 51PF 50V NP0 0805; Part Number: CL21C510JBANNNC; Manufacturer: Samsung Electro-Mechanics America, Inc.; TemperatureRange: -55C ~ 125C; TemperatureCoefficient: C0G, NP0; Tolerance: 5%; Value: 51pF; PartId: 5764; Supplier 1: Digi-Key; Supplier Part Number 1: 1276-2670-2-ND; ComponentLink1Description: Datasheet; ComponentLink1URL: http://www.samsungsem.com/kr/support/product-search/mlcc/CL21C510JBANNNC.jsp; ComponentLink2Description: Digi-Key listing; ComponentLink2URL: http://digikey.com/product-detail/en/CL21C510JBANNNC/1276-2670-2-ND/3888328; Voltage: 50V; Price: 0.0163; Type: -; Device Package: 0805 (2012 Metric)
footprint CAP 0805/2012
pins: 1, 2

## CL21C511JBANNNC
designator C?, comment 510pF
CAP CER 510PF 50V NP0 0805; Part Number: CL21C511JBANNNC; Manufacturer: Samsung Electro-Mechanics America, Inc.; TemperatureRange: -55C ~ 125C; TemperatureCoefficient: C0G, NP0; Tolerance: 5%; Value: 510pF; PartId: 5924; Supplier 1: Digi-Key; Supplier Part Number 1: 1276-2671-2-ND; ComponentLink1Description: Datasheet; ComponentLink1URL: http://www.samsungsem.com/kr/support/product-search/mlcc/CL21C511JBANNNC.jsp; ComponentLink2Description: Digi-Key listing; ComponentLink2URL: http://digikey.com/product-detail/en/CL21C511JBANNNC/1276-2671-2-ND/3888329; Voltage: 50V; Price: 0.0406; Type: -; Device Package: 0805 (2012 Metric)
footprint CAP 0805/2012
pins: 1, 2

## CL21C561JBANNNC
designator C?, comment 560pF
CAP CER 560PF 50V NP0 0805; Part Number: CL21C561JBANNNC; Manufacturer: Samsung Electro-Mechanics America, Inc.; TemperatureRange: -55C ~ 125C; TemperatureCoefficient: C0G, NP0; Tolerance: 5%; Value: 560pF; PartId: 5869; Supplier 1: Digi-Key; Supplier Part Number 1: 1276-1834-2-ND; ComponentLink1Description: Datasheet; ComponentLink1URL: http://www.samsungsem.com/kr/support/product-search/mlcc/CL21C561JBANNNC.jsp; ComponentLink2Description: Digi-Key listing; ComponentLink2URL: http://digikey.com/product-detail/en/CL21C561JBANNNC/1276-1834-2-ND/3887492; Voltage: 50V; Price: 0.0289; Type: -; Device Package: 0805 (2012 Metric)
footprint CAP 0805/2012
pins: 1, 2

## CL21C562JBFNNNE
designator C?, comment 5600pF
CAP CER 5600PF 50V NP0 0805; Part Number: CL21C562JBFNNNE; Manufacturer: Samsung Electro-Mechanics America, Inc.; TemperatureRange: -55C ~ 125C; TemperatureCoefficient: C0G, NP0; Tolerance: 5%; Value: 5600pF; PartId: 6001; Supplier 1: Digi-Key; Supplier Part Number 1: 1276-3006-2-ND; ComponentLink1Description: Datasheet; ComponentLink1URL: http://www.samsungsem.com/kr/support/product-search/mlcc/CL21C562JBFNNNE.jsp; ComponentLink2Description: Digi-Key listing; ComponentLink2URL: http://digikey.com/product-detail/en/CL21C562JBFNNNE/1276-3006-2-ND/3888664; Voltage: 50V; Price: 0.0672; Type: -; Device Package: 0805 (2012 Metric)
footprint CAP 0805/2012
pins: 1, 2

## CL21C620JBANNNC
designator C?, comment 62pF
CAP CER 62PF 50V NP0 0805; Part Number: CL21C620JBANNNC; Manufacturer: Samsung Electro-Mechanics America, Inc.; TemperatureRange: -55C ~ 125C; TemperatureCoefficient: C0G, NP0; Tolerance: 5%; Value: 62pF; PartId: 5756; Supplier 1: Digi-Key; Supplier Part Number 1: 1276-1305-2-ND; ComponentLink1Description: Datasheet; ComponentLink1URL: http://www.samsungsem.com/kr/support/product-search/mlcc/CL21C620JBANNNC.jsp; ComponentLink2Description: Digi-Key listing; ComponentLink2URL: http://digikey.com/product-detail/en/CL21C620JBANNNC/1276-1305-2-ND/3886963; Voltage: 50V; Price: 0.0163; Type: -; Device Package: 0805 (2012 Metric)
footprint CAP 0805/2012
pins: 1, 2

## CL21C621JBCNNNC
designator C?, comment 620pF
CAP CER 620PF 50V NP0 0805; Part Number: CL21C621JBCNNNC; Manufacturer: Samsung Electro-Mechanics America, Inc.; TemperatureRange: -55C ~ 125C; TemperatureCoefficient: C0G, NP0; Tolerance: 5%; Value: 620pF; PartId: 5721; Supplier 1: Digi-Key; Supplier Part Number 1: 1276-2677-2-ND; ComponentLink1Description: Datasheet; ComponentLink1URL: http://www.samsungsem.com/kr/support/product-search/mlcc/CL21C621JBCNNNC.jsp; ComponentLink2Description: Digi-Key listing; ComponentLink2URL: http://digikey.com/product-detail/en/CL21C621JBCNNNC/1276-2677-2-ND/3888335; Voltage: 50V; Price: 0.0139; Type: -; Device Package: 0805 (2012 Metric)
footprint CAP 0805/2012
pins: 1, 2

## CL21C680GBANNNC
designator C?, comment 68pF
CAP CER 68PF 50V NP0 0805; Part Number: CL21C680GBANNNC; Manufacturer: Samsung Electro-Mechanics America, Inc.; TemperatureRange: -55C ~ 125C; TemperatureCoefficient: C0G, NP0; Tolerance: 2%; Value: 68pF; PartId: 5960; Supplier 1: Digi-Key; Supplier Part Number 1: 1276-2678-2-ND; ComponentLink1Description: Datasheet; ComponentLink1URL: http://www.samsungsem.com/kr/support/product-search/mlcc/CL21C680GBANNNC.jsp; ComponentLink2Description: Digi-Key listing; ComponentLink2URL: http://digikey.com/product-detail/en/CL21C680GBANNNC/1276-2678-2-ND/3888336; Voltage: 50V; Price: 0.0567; Type: -; Device Package: 0805 (2012 Metric)
footprint CAP 0805/2012
pins: 1, 2

## CL21C680JBANNNC
designator C?, comment 68pF
CAP CER 68PF 50V NP0 0805; Part Number: CL21C680JBANNNC; Manufacturer: Samsung Electro-Mechanics America, Inc.; TemperatureRange: -55C ~ 125C; TemperatureCoefficient: C0G, NP0; Tolerance: 5%; Value: 68pF; PartId: 5737; Supplier 1: Digi-Key; Supplier Part Number 1: 1276-1136-2-ND; ComponentLink1Description: Datasheet; ComponentLink1URL: http://www.samsungsem.com/kr/support/product-search/mlcc/CL21C680JBANNNC.jsp; ComponentLink2Description: Digi-Key listing; ComponentLink2URL: http://digikey.com/product-detail/en/CL21C680JBANNNC/1276-1136-2-ND/3886794; Voltage: 50V; Price: 0.0153; Type: -; Device Package: 0805 (2012 Metric)
footprint CAP 0805/2012
pins: 1, 2

## CL21C680JCANNNC
designator C?, comment 68pF
CAP CER 68PF 100V NP0 0805; Part Number: CL21C680JCANNNC; Manufacturer: Samsung Electro-Mechanics America, Inc.; TemperatureRange: -55C ~ 125C; TemperatureCoefficient: C0G, NP0; Tolerance: 5%; Value: 68pF; PartId: 5849; Supplier 1: Digi-Key; Supplier Part Number 1: 1276-2681-2-ND; ComponentLink1Description: Datasheet; ComponentLink1URL: http://www.samsungsem.com/kr/support/product-search/mlcc/CL21C680JCANNNC.jsp; ComponentLink2Description: Digi-Key listing; ComponentLink2URL: http://digikey.com/product-detail/en/CL21C680JCANNNC/1276-2681-2-ND/3888339; Voltage: 100V; Price: 0.0245; Type: -; Device Package: 0805 (2012 Metric)
footprint CAP 0805/2012
pins: 1, 2

## CL21C680KBANNNC
designator C?, comment 68pF
CAP CER 68PF 50V NP0 0805; Part Number: CL21C680KBANNNC; Manufacturer: Samsung Electro-Mechanics America, Inc.; TemperatureRange: -55C ~ 125C; TemperatureCoefficient: C0G, NP0; Tolerance: 10%; Value: 68pF; PartId: 5779; Supplier 1: Digi-Key; Supplier Part Number 1: 1276-2682-2-ND; ComponentLink1Description: Datasheet; ComponentLink1URL: http://www.samsungsem.com/kr/support/product-search/mlcc/CL21C680KBANNNC.jsp; ComponentLink2Description: Digi-Key listing; ComponentLink2URL: http://digikey.com/product-detail/en/CL21C680KBANNNC/1276-2682-2-ND/3888340; Voltage: 50V; Price: 0.0165; Type: -; Device Package: 0805 (2012 Metric)
footprint CAP 0805/2012
pins: 1, 2

## CL21C681GBCNNNC
designator C?, comment 680pF
CAP CER 680PF 50V NP0 0805; Part Number: CL21C681GBCNNNC; Manufacturer: Samsung Electro-Mechanics America, Inc.; TemperatureRange: -55C ~ 125C; TemperatureCoefficient: C0G, NP0; Tolerance: 2%; Value: 680pF; PartId: 6098; Supplier 1: Digi-Key; Supplier Part Number 1: 1276-2683-2-ND; ComponentLink1Description: Datasheet; ComponentLink1URL: http://www.samsungsem.com/kr/support/product-search/mlcc/CL21C681GBCNNNC.jsp; ComponentLink2Description: Digi-Key listing; ComponentLink2URL: http://digikey.com/product-detail/en/CL21C681GBCNNNC/1276-2683-2-ND/3888341; Voltage: 50V; Price: 0.1236; Type: -; Device Package: 0805 (2012 Metric)
footprint CAP 0805/2012
pins: 1, 2

## CL21C681JCCNNNC
designator C?, comment 680pF
CAP CER 680PF 100V NP0 0805; Part Number: CL21C681JCCNNNC; Manufacturer: Samsung Electro-Mechanics America, Inc.; TemperatureRange: -55C ~ 125C; TemperatureCoefficient: C0G, NP0; Tolerance: 5%; Value: 680pF; PartId: 5942; Supplier 1: Digi-Key; Supplier Part Number 1: 1276-1835-2-ND; ComponentLink1Description: Datasheet; ComponentLink1URL: http://www.samsungsem.com/kr/support/product-search/mlcc/CL21C681JCCNNNC.jsp; ComponentLink2Description: Digi-Key listing; ComponentLink2URL: http://digikey.com/product-detail/en/CL21C681JCCNNNC/1276-1835-2-ND/3887493; Voltage: 100V; Price: 0.0457; Type: -; Device Package: 0805 (2012 Metric)
footprint CAP 0805/2012
pins: 1, 2

## CL21C750JBANNNC
designator C?, comment 75pF
CAP CER 75PF 50V NP0 0805; Part Number: CL21C750JBANNNC; Manufacturer: Samsung Electro-Mechanics America, Inc.; TemperatureRange: -55C ~ 125C; TemperatureCoefficient: C0G, NP0; Tolerance: 5%; Value: 75pF; PartId: 5765; Supplier 1: Digi-Key; Supplier Part Number 1: 1276-2690-2-ND; ComponentLink1Description: Datasheet; ComponentLink1URL: http://www.samsungsem.com/kr/support/product-search/mlcc/CL21C750JBANNNC.jsp; ComponentLink2Description: Digi-Key listing; ComponentLink2URL: http://digikey.com/product-detail/en/CL21C750JBANNNC/1276-2690-2-ND/3888348; Voltage: 50V; Price: 0.0163; Type: -; Device Package: 0805 (2012 Metric)
footprint CAP 0805/2012
pins: 1, 2

## CL21C820GBANNNC
designator C?, comment 82pF
CAP CER 82PF 50V NP0 0805; Part Number: CL21C820GBANNNC; Manufacturer: Samsung Electro-Mechanics America, Inc.; TemperatureRange: -55C ~ 125C; TemperatureCoefficient: C0G, NP0; Tolerance: 2%; Value: 82pF; PartId: 5999; Supplier 1: Digi-Key; Supplier Part Number 1: 1276-2694-2-ND; ComponentLink1Description: Datasheet; ComponentLink1URL: http://www.samsungsem.com/kr/support/product-search/mlcc/CL21C820GBANNNC.jsp; ComponentLink2Description: Digi-Key listing; ComponentLink2URL: http://digikey.com/product-detail/en/CL21C820GBANNNC/1276-2694-2-ND/3888352; Voltage: 50V; Price: 0.067; Type: -; Device Package: 0805 (2012 Metric)
footprint CAP 0805/2012
pins: 1, 2

## CL21C820JBANNNC
designator C?, comment 82pF
CAP CER 82PF 50V NP0 0805; Part Number: CL21C820JBANNNC; Manufacturer: Samsung Electro-Mechanics America, Inc.; TemperatureRange: -55C ~ 125C; TemperatureCoefficient: C0G, NP0; Tolerance: 5%; Value: 82pF; PartId: 5749; Supplier 1: Digi-Key; Supplier Part Number 1: 1276-1802-2-ND; ComponentLink1Description: Datasheet; ComponentLink1URL: http://www.samsungsem.com/kr/support/product-search/mlcc/CL21C820JBANNNC.jsp; ComponentLink2Description: Digi-Key listing; ComponentLink2URL: http://digikey.com/product-detail/en/CL21C820JBANNNC/1276-1802-2-ND/3887460; Voltage: 50V; Price: 0.0163; Type: -; Device Package: 0805 (2012 Metric)
footprint CAP 0805/2012
pins: 1, 2

## CL21C910JBANNNC
designator C?, comment 91pF
CAP CER 91PF 50V NP0 0805; Part Number: CL21C910JBANNNC; Manufacturer: Samsung Electro-Mechanics America, Inc.; TemperatureRange: -55C ~ 125C; TemperatureCoefficient: C0G, NP0; Tolerance: 5%; Value: 91pF; PartId: 5760; Supplier 1: Digi-Key; Supplier Part Number 1: 1276-1836-2-ND; ComponentLink1Description: Datasheet; ComponentLink1URL: http://www.samsungsem.com/kr/support/product-search/mlcc/CL21C910JBANNNC.jsp; ComponentLink2Description: Digi-Key listing; ComponentLink2URL: http://digikey.com/product-detail/en/CL21C910JBANNNC/1276-1836-2-ND/3887494; Voltage: 50V; Price: 0.0163; Type: -; Device Package: 0805 (2012 Metric)
footprint CAP 0805/2012
pins: 1, 2

## CL21C911JBCNNNC
designator C?, comment 910pF
CAP CER 910PF 50V NP0 0805; Part Number: CL21C911JBCNNNC; Manufacturer: Samsung Electro-Mechanics America, Inc.; TemperatureRange: -55C ~ 125C; TemperatureCoefficient: C0G, NP0; Tolerance: 5%; Value: 910pF; PartId: 5936; Supplier 1: Digi-Key; Supplier Part Number 1: 1276-2698-2-ND; ComponentLink1Description: Datasheet; ComponentLink1URL: http://www.samsungsem.com/kr/support/product-search/mlcc/CL21C911JBCNNNC.jsp; ComponentLink2Description: Digi-Key listing; ComponentLink2URL: http://digikey.com/product-detail/en/CL21C911JBCNNNC/1276-2698-2-ND/3888356; Voltage: 50V; Price: 0.0435; Type: -; Device Package: 0805 (2012 Metric)
footprint CAP 0805/2012
pins: 1, 2

## CL21CR47CBANNNC
designator C?, comment 0.47pF
CAP CER 0.47PF 50V NP0 0805; Part Number: CL21CR47CBANNNC; Manufacturer: Samsung Electro-Mechanics America, Inc.; TemperatureRange: -55C ~ 125C; TemperatureCoefficient: C0G, NP0; Tolerance: 0.25pF; Value: 0.47pF; PartId: 5676; Supplier 1: Digi-Key; Supplier Part Number 1: 1276-2700-2-ND; ComponentLink1Description: Datasheet; ComponentLink1URL: http://media.digikey.com/pdf/Data%20Sheets/Samsung%20PDFs/CL21CR47CBANNNC_Spec.pdf; ComponentLink2Description: Digi-Key listing; ComponentLink2URL: http://digikey.com/product-detail/en/CL21CR47CBANNNC/1276-2700-2-ND/3888358; Voltage: 50V; Price: 0.0054; Type: -; Device Package: 0805 (2012 Metric)
footprint CAP 0805/2012
pins: 1, 2

## CL21CR68BBANNNC
designator C?, comment 0.68pF
CAP CER 0.68PF 50V NP0 0805; Part Number: CL21CR68BBANNNC; Manufacturer: Samsung Electro-Mechanics America, Inc.; TemperatureRange: -55C ~ 125C; TemperatureCoefficient: C0G, NP0; Tolerance: 0.1pF; Value: 0.68pF; PartId: 5692; Supplier 1: Digi-Key; Supplier Part Number 1: 1276-2701-2-ND; ComponentLink1Description: Datasheet; ComponentLink1URL: http://media.digikey.com/pdf/Data%20Sheets/Samsung%20PDFs/CL21CR68BBANNNC_Spec.pdf; ComponentLink2Description: Digi-Key listing; ComponentLink2URL: http://digikey.com/product-detail/en/CL21CR68BBANNNC/1276-2701-2-ND/3888359; Voltage: 50V; Price: 0.0078; Type: -; Device Package: 0805 (2012 Metric)
footprint CAP 0805/2012
pins: 1, 2

## CL21CR75BBANNNC
designator C?, comment 0.75pF
CAP CER 0.75PF 50V NP0 0805; Part Number: CL21CR75BBANNNC; Manufacturer: Samsung Electro-Mechanics America, Inc.; TemperatureRange: -55C ~ 125C; TemperatureCoefficient: C0G, NP0; Tolerance: 0.1pF; Value: 0.75pF; PartId: 5690; Supplier 1: Digi-Key; Supplier Part Number 1: 1276-2702-2-ND; ComponentLink1Description: Datasheet; ComponentLink1URL: http://media.digikey.com/pdf/Data%20Sheets/Samsung%20PDFs/CL21CR75BBANNNC_Spec.pdf; ComponentLink2Description: Digi-Key listing; ComponentLink2URL: http://digikey.com/product-detail/en/CL21CR75BBANNNC/1276-2702-2-ND/3888360; Voltage: 50V; Price: 0.0073; Type: -; Device Package: 0805 (2012 Metric)
footprint CAP 0805/2012
pins: 1, 2